# Altium integrated library 22284245.IntLib: 1 symbol
Pins are listed as number, name and electrical type; pins without a type are passive.

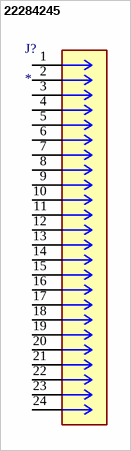
[diagram p0: symbol 22284245]

## 22284245
designator J?
Connector Header Through Hole 24 position 0.100 (2.54mm); MF: Molex; SnapEDA_Link: https://www.snapeda.com/parts/22-28-4245/Molex/view-part/?ref=snap; Package: None; Value: *; MP: 22-28-4245; Check_prices: https://www.snapeda.com/parts/22-28-4245/Molex/view-part/?ref=eda
footprint CONN_SD-42375-001_M295_24_MOL
pins: 1, 2, 3, 4, 5, 6, 7, 8, 9, 10, 11, 12, 13, 14, 15, 16, 17, 18, 19, 20, 21, 22, 23, 24